# Altium footprint library PCB.PcbLib: 16 footprints
Each footprint in its own frame and in the unit in brackets; x right, y up, seen from the top. Pads: shape width x height; smd on the part's side, far side on the other; paste and mask are expansions set on the pad; w line width, h text height; cw(c..) or ccw(c..) is an arc to the next point about the centre after c.
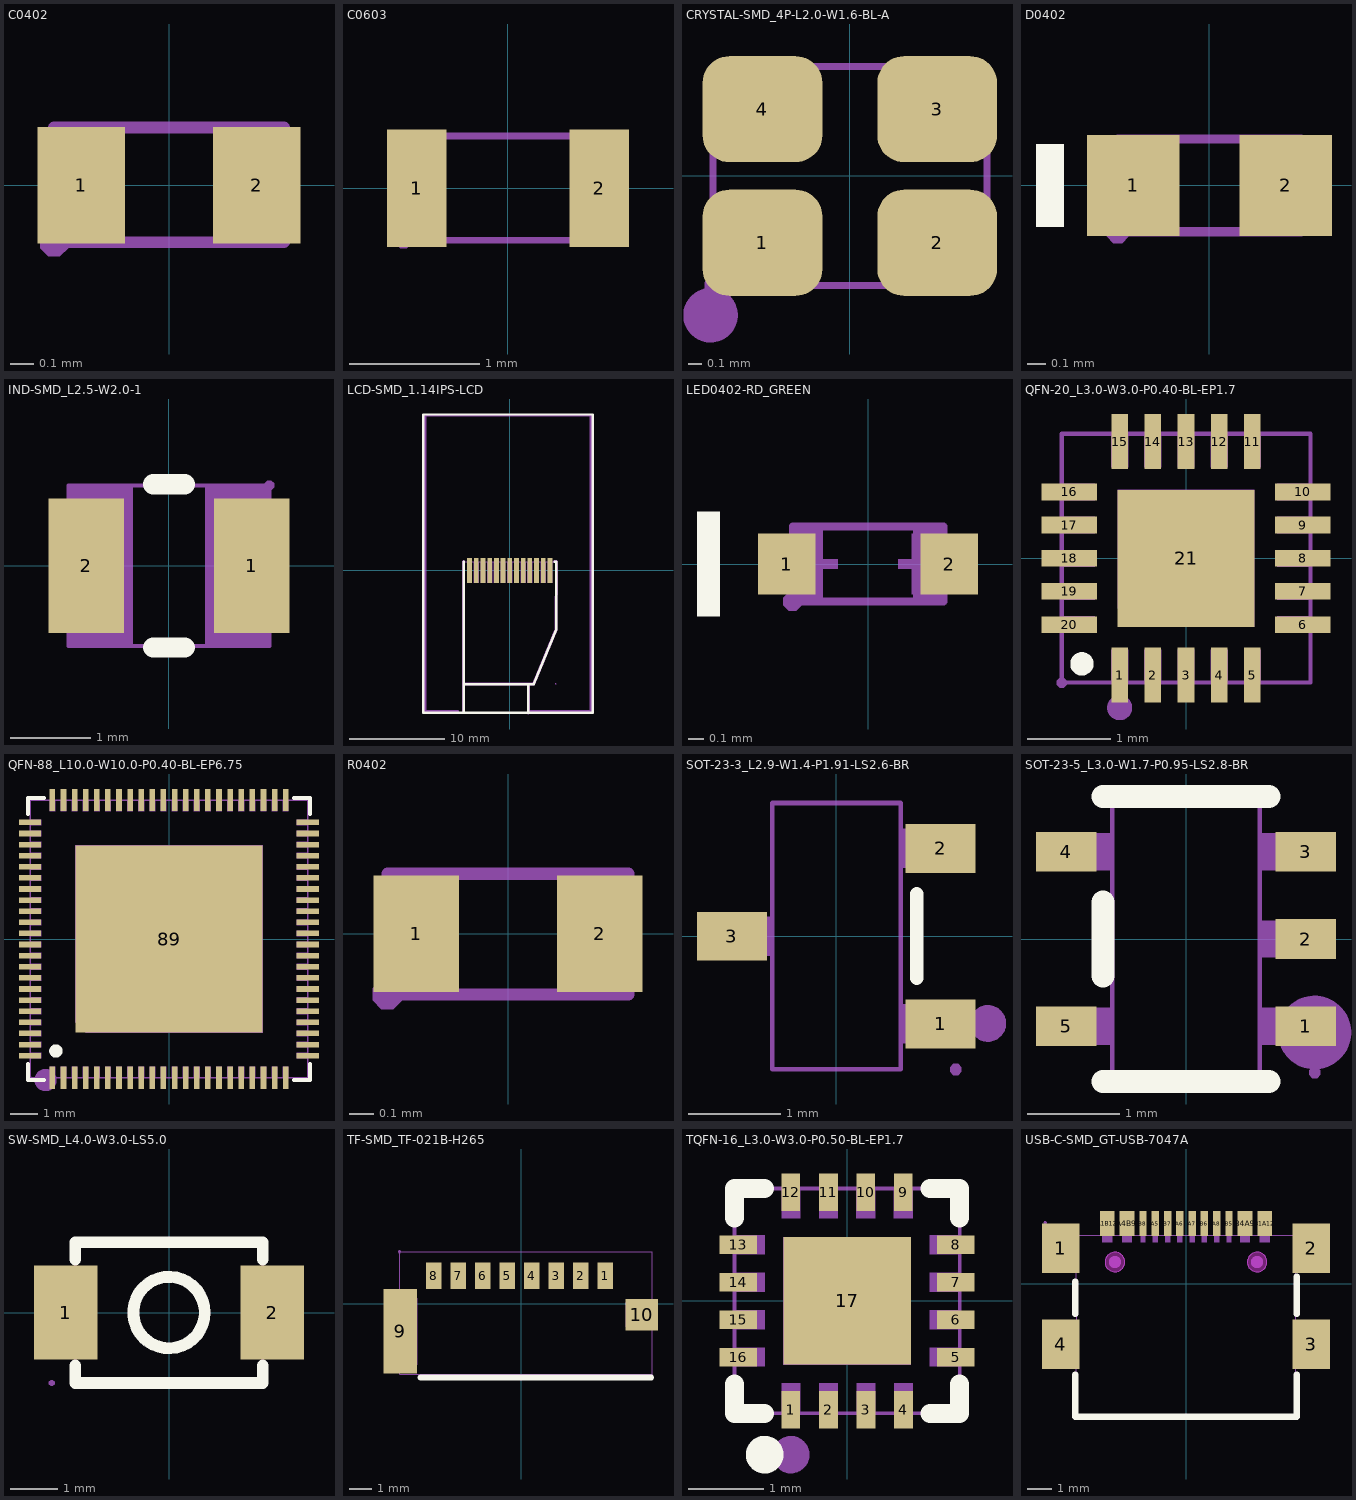
[diagram p0: the footprints below, top view; thin cyan lines are the x and y axes]

## C0402 [mil]
pads (2):
  rect 15x20 smd paste-3937 mask+2: 1(-15,0) 2(15,0)
Top Paste:
  region: -2.1,8.9 -2.1,-8.8 -4.8,-10.8 -23.7,-10.8 -25.7,-8.8 -25.7,8.9 -23.7,10.9 -4.8,10.9
  region: 25.7,8.9 25.7,-8.8 23.7,-10.8 4.8,-10.8 2.1,-8.8 2.1,8.9 4.8,10.9 23.7,10.9
Mechanical 7:
  lines w2: -19.7,-9.8 -19.7,9.9 19.7,9.9 19.7,-9.8 -19.7,-9.8
Mechanical 8:
  region: -17.3,-9.8 -17.3,-10.79 -18.71,-12.2 -20.69,-12.2 -22.1,-10.79 -22.1,-9.8 -22.1,-8.81 -20.69,-7.4 -18.71,-7.4 -17.3,-8.81 -17.3,-9.8
Mechanical 9:
  region: -19.7,-9.8 -19.7,9.9 -9.8,9.9 -9.8,-9.8
  region: 19.7,-9.8 19.7,9.9 9.8,9.9 9.8,-9.8

## C0603 [mil]
pads (2):
  rect 18x35.4 smd paste+0 mask+2: 1(-27.5,0) 2(27.6,0)
Mechanical 7:
  lines w2: -31.5,-15.7 31.5,-15.7 31.5,15.8 -31.5,15.8 -31.5,-15.7
Mechanical 8:
  region: -31.5,-18.1 -32.49,-18.1 -33.9,-16.69 -33.9,-14.71 -32.49,-13.3 -31.5,-13.3 -30.51,-13.3 -29.1,-14.71 -29.1,-16.69 -30.51,-18.1 -31.5,-18.1
Mechanical 9:
  region: 31.5,-15.7 31.5,15.8 19.7,15.8 19.7,-15.7
  region: -31.5,-15.7 -31.5,15.8 -19.6,15.8 -19.6,-15.7

## CRYSTAL-SMD_4P-L2.0-W1.6-BL-A [mil]
pads (4):
  rrect50% 34.4x30.5 smd: 1(-25.1,-19.2) 2(25.1,-19.2) 3(25.1,19.2) 4(-25.1,19.2)
Mechanical 6:
  circle w7.9: c-40,-40 r3.9
Mechanical 7:
  lines w2: -39.3,-31.5 39.4,-31.5 39.4,31.5 -39.3,31.5 -39.3,-31.5
Mechanical 8:
  region: -39.3,-33.9 -40.29,-33.9 -41.7,-32.49 -41.7,-30.51 -40.29,-29.1 -39.3,-29.1 -38.31,-29.1 -36.9,-30.51 -36.9,-32.49 -38.31,-33.9 -39.3,-33.9
Mechanical 9:
  region: -39.3,31.5 -12.8,31.5 -12.8,8.9 -39.3,8.9
  region: 12.8,31.5 39.4,31.5 39.4,8.9 12.8,8.9
  region: 12.8,-8.9 39.4,-8.9 39.4,-31.5 12.8,-31.5
  region: -39.3,-8.9 -12.8,-8.9 -12.8,-31.5 -39.3,-31.5

## D0402 [mil]
pads (2):
  rect 19.9x21.7 smd paste-3937 mask+2: 1(-16.4,0) 2(16.4,0)
Top Overlay:
  region: -31.3,-8.9 -31.3,8.8 -37.3,8.8 -37.3,-8.9
Top Paste:
  region: 5.8,9.2 5.8,-9.2 7.5,-10.8 24.8,-10.8 26.4,-9.2 26.4,9.2 24.8,10.8 7.5,10.8
  region: -5.8,9.2 -5.8,-9.2 -7.4,-10.8 -24.7,-10.8 -26.3,-9.2 -26.3,9.2 -24.7,10.8 -7.4,10.8
Mechanical 6:
  region: 13.7,-8 13.7,8 11.3,8 11.3,-8
  region: 17.3,-1.2 17.3,1.2 7.7,1.2 7.7,-1.2
  region: -17.2,-1.2 -17.2,1.2 -7.6,1.2 -7.6,-1.2
Mechanical 7:
  lines w2: -19.7,-10 19.7,-10 19.7,10 -19.7,10 -19.7,-10
Mechanical 8:
  region: -19.7,-12.4 -20.69,-12.4 -22.1,-10.99 -22.1,-9.01 -20.69,-7.6 -19.7,-7.6 -18.71,-7.6 -17.3,-9.01 -17.3,-10.99 -18.71,-12.4 -19.7,-12.4
Mechanical 9:
  region: 19.7,-10 19.7,10 10.3,10 10.3,-10
  region: -19.7,-10 -19.7,10 -10.2,10 -10.2,-10

## IND-SMD_L2.5-W2.0-1 [mil]
pads (2):
  rect 37x66 smd paste+0 mask+2: 1(40.5,0) 2(-40.5,0)
Top Overlay:
  lines w10: -7.7,-40 7.8,-40 ; -7.7,40 7.8,40
Mechanical 7:
  lines w2: -49.2,-39.3 -49.2,39.4 49.2,39.4 49.2,-39.3 -49.2,-39.3
Mechanical 8:
  region: 51.6,39.4 51.6,38.41 50.19,37 48.21,37 46.8,38.41 46.8,39.4 46.8,40.39 48.21,41.8 50.19,41.8 51.6,40.39 51.6,39.4
Mechanical 9:
  region: 17.7,39.4 49.2,39.4 49.2,-39.3 17.7,-39.3
  region: -49.2,39.4 -17.7,39.4 -17.7,-39.3 -49.2,-39.3

## LCD-SMD_1.14IPS-LCD [mil]
pads (13):
  rect 19.7x102.4 smd paste+0 mask+2: 1(165.3,0) 2(137.7,0) 3(110.2,0) 4(82.6,0) 5(55.1,0) 6(27.5,0) 7(0,0) 8(-27.6,0) 9(-55.2,0) 10(-82.7,0) 11(-110.3,0) 12(-137.8,0) 13(-165.4,0)
Top Overlay:
  lines w10: -189.8,-586.3 -189.8,-468.1 ; -189.8,35.5 -189.8,-468.4 65.9,-468.4 98.4,-468.4 190.9,-244.1 191.7,35.5 184.2,35.5 ; 76.7,-586.7 76.7,-468.5 ; -355.7,-586.6 -355.7,641.7 341.1,641.7 341.1,-586.6 -355.7,-586.6
Mechanical 6:
  drawing of 7 lines, arcs and shapes, not listed
Mechanical 7:
  lines w2: -189,-468.5 98.4,-468.5 188.9,-244.1 188.9,35.4 -189,35.4 -189,-468.5
Mechanical 8:
  region: 188.9,-464.9 187.91,-464.9 186.5,-466.31 186.5,-468.29 187.91,-469.7 188.9,-469.7 189.89,-469.7 191.3,-468.29 191.3,-466.31 189.89,-464.9 188.9,-464.9 188.9,-465
Mechanical 9:
  region: 155.5,-51.2 175.1,-51.2 175.1,35.4 155.5,35.4
  region: 127.9,-51.2 147.6,-51.2 147.6,35.4 127.9,35.4
  region: 100.3,-51.2 120,-51.2 120,35.4 100.3,35.4
  region: 72.8,-51.2 92.5,-51.2 92.5,35.4 72.8,35.4
  region: 45.2,-51.2 64.9,-51.2 64.9,35.4 45.2,35.4
  region: 17.7,-51.2 37.4,-51.2 37.4,35.4 17.7,35.4
  region: -9.9,-51.2 9.8,-51.2 9.8,35.4 -9.9,35.4
  region: -37.4,-51.2 -17.8,-51.2 -17.8,35.4 -37.4,35.4
  region: -65,-51.2 -45.3,-51.2 -45.3,35.4 -65,35.4
  region: -92.6,-51.2 -72.9,-51.2 -72.9,35.4 -92.6,35.4
  region: -120.1,-51.2 -100.4,-51.2 -100.4,35.4 -120.1,35.4
  region: -147.7,-51.2 -128,-51.2 -128,35.4 -147.7,35.4
  region: -175.2,-51.2 -155.6,-51.2 -155.6,35.4 -175.2,35.4

## LED0402-RD_GREEN [mil]
pads (2):
  rect 15x16 smd paste-3937 mask+2: 1(-21.2,0) 2(21.2,0)
Top Overlay:
  region: -38.7,-13.6 -38.7,13.6 -44.7,13.6 -44.7,-13.6
Top Paste:
  region: -7.8,-9.1 -7.8,9.1 -9.4,10.6 -32.1,10.6 -33.7,9.1 -33.7,-9.1 -32.1,-10.6 -9.4,-10.6
  region: 7.8,-9.1 7.8,9.1 9.4,10.6 32.1,10.6 33.7,9.1 33.7,-9.1 32.1,-10.6 9.4,-10.6
Mechanical 6:
  region: 13.8,-7.9 13.8,7.9 11.4,7.9 11.4,-7.9
  region: 17.3,-1.2 17.3,1.2 7.9,1.2 7.9,-1.2
  region: -17.3,-1.2 -17.3,1.2 -7.9,1.2 -7.9,-1.2
Mechanical 7:
  lines w2: -19.7,-9.8 19.7,-9.8 19.7,9.8 -19.7,9.8 -19.7,-9.8
Mechanical 8:
  region: -17.3,-9.8 -17.3,-10.79 -18.71,-12.2 -20.69,-12.2 -22.1,-10.79 -22.1,-9.8 -22.1,-8.81 -20.69,-7.4 -18.71,-7.4 -17.3,-8.81 -17.3,-9.8
Mechanical 9:
  region: 19.7,-9.8 19.7,9.8 11.8,9.8 11.8,-9.8
  region: -19.7,-9.8 -19.7,9.8 -11.8,9.8 -11.8,-9.8

## QFN-20_L3.0-W3.0-P0.40-BL-EP1.7 [mil]
pads (21):
  rect 7.9x26.2 smd paste-3937 mask+2: 1(-31.5,-55.4) 2(-15.7,-55.4) 3(0,-55.4) 4(15.8,-55.4) 5(31.5,-55.4) 11(31.5,55.4) 12(15.8,55.4) 13(0,55.4) 14(-15.7,55.4) 15(-31.5,55.4)
  rect 26.2x7.9 smd paste-3937 mask+2: 6(55.4,-31.5) 7(55.4,-15.7) 8(55.4,0) 9(55.4,15.8) 10(55.4,31.5) 16(-55.4,31.5) 17(-55.4,15.8) 18(-55.4,0) 19(-55.4,-15.7) 20(-55.4,-31.5)
  rect 65x65 smd paste-3937 mask+2: 21(0,0)
Top Overlay:
  circle w5.9: c-49.4,-50.1 r2.6
Top Paste:
  region: -68.5,-27.6 -42.3,-27.6 -42.3,-35.4 -68.5,-35.4
  region: -68.5,-11.8 -42.3,-11.8 -42.3,-19.7 -68.5,-19.7
  region: -68.5,3.9 -42.3,3.9 -42.3,-3.9 -68.5,-3.9
  region: -68.5,19.7 -42.3,19.7 -42.3,11.8 -68.5,11.8
  region: -68.5,35.4 -42.3,35.4 -42.3,27.6 -68.5,27.6
  region: -35.4,68.5 -27.6,68.5 -27.6,42.3 -35.4,42.3
  region: -19.7,68.5 -11.8,68.5 -11.8,42.3 -19.7,42.3
  region: -3.9,68.5 3.9,68.5 3.9,42.3 -3.9,42.3
  region: 11.8,68.5 19.7,68.5 19.7,42.3 11.8,42.3
  region: 27.6,68.5 35.4,68.5 35.4,42.3 27.6,42.3
  region: 42.3,35.4 68.5,35.4 68.5,27.6 42.3,27.6
  region: 42.3,19.7 68.5,19.7 68.5,11.8 42.3,11.8
  region: 42.3,3.9 68.5,3.9 68.5,-3.9 42.3,-3.9
  region: 42.3,-11.8 68.5,-11.8 68.5,-19.7 42.3,-19.7
  region: 42.3,-27.6 68.5,-27.6 68.5,-35.4 42.3,-35.4
  region: 27.6,-42.3 35.4,-42.3 35.4,-68.5 27.6,-68.5
  region: 11.8,-42.3 19.7,-42.3 19.7,-68.5 11.8,-68.5
  region: -3.9,-42.3 3.9,-42.3 3.9,-68.5 -3.9,-68.5
  region: -19.7,-42.3 -11.8,-42.3 -11.8,-68.5 -19.7,-68.5
  region: -35.4,-42.3 -27.6,-42.3 -27.6,-68.5 -35.4,-68.5
  region: -26,26 26,26 26,-26 -26,-26
Mechanical 6:
  circle w5.9: c-31.5,-70.9 r3
Mechanical 7:
  lines w2: -59,-59 59.1,-59 59.1,59.1 -59,59.1 -59,-59
Mechanical 8:
  region: -61.4,-59.1 -61.4,-58.11 -59.99,-56.7 -58.01,-56.7 -56.6,-58.11 -56.6,-59.1 -56.6,-60.09 -58.01,-61.5 -59.99,-61.5 -61.4,-60.09 -61.4,-59.1
Mechanical 9:
  region: -32.5,-23.6 -32.5,32.5 32.5,32.5 32.5,-32.5 -23.6,-32.3
  region: -43.3,-35.4 -43.3,-27.6 -59,-27.6 -59,-35.4
  region: -43.3,-19.7 -43.3,-11.8 -59,-11.8 -59,-19.7
  region: -43.3,-3.9 -43.3,3.9 -59,3.9 -59,-3.9
  region: -43.3,11.8 -43.3,19.7 -59,19.7 -59,11.8
  region: -43.3,27.6 -43.3,35.4 -59,35.4 -59,27.6
  region: -35.4,59.1 -35.4,43.3 -27.5,43.3 -27.5,59.1
  region: -19.7,59.1 -19.7,43.3 -11.8,43.3 -11.8,59.1
  region: -3.9,59.1 -3.9,43.3 3.9,43.3 3.9,59.1
  region: 11.8,59.1 11.8,43.3 19.7,43.3 19.7,59.1
  region: 27.6,59.1 27.6,43.3 35.4,43.3 35.4,59.1
  region: 43.3,27.6 43.3,35.4 59.1,35.4 59.1,27.6
  region: 43.3,11.8 43.3,19.7 59.1,19.7 59.1,11.8
  region: 43.3,-3.9 43.3,3.9 59.1,3.9 59.1,-3.9
  region: 43.3,-19.7 43.3,-11.8 59.1,-11.8 59.1,-19.7
  region: 43.3,-35.4 43.3,-27.6 59.1,-27.6 59.1,-35.4
  region: 27.6,-59 27.6,-43.3 35.4,-43.3 35.4,-59
  region: 11.8,-59 11.8,-43.3 19.7,-43.3 19.7,-59
  region: -3.9,-59 -3.9,-43.3 3.9,-43.3 3.9,-59
  region: -19.7,-59 -19.7,-43.3 -11.8,-43.3 -11.8,-59
  region: -35.4,-59 -35.4,-43.3 -27.5,-43.3 -27.5,-59

## QFN-88_L10.0-W10.0-P0.40-BL-EP6.75 [mil]
pads (89):
  rect 7.9x31.5 smd paste-3937 mask+2: 1(-165.4,-196.8) 2(-149.6,-196.8) 3(-133.9,-196.8) 4(-118.1,-196.8) 5(-102.4,-196.8) 6(-86.6,-196.8) 7(-70.9,-196.8) 8(-55.1,-196.8) 9(-39.4,-196.8) 10(-23.6,-196.8) 11(-7.9,-196.8) 12(7.9,-196.8) 13(23.6,-196.8) 14(39.4,-196.8) 15(55.1,-196.8) 16(70.9,-196.8) 17(86.6,-196.8) 18(102.4,-196.8) 19(118.1,-196.8) 20(133.9,-196.8) 21(149.6,-196.8) 22(165.3,-196.8) 45(165.3,196.9) 46(149.6,196.9) 47(133.9,196.9) 48(118.1,196.9) 49(102.4,196.9) 50(86.6,196.9) 51(70.9,196.9) 52(55.1,196.9) 53(39.4,196.9) 54(23.6,196.9) 55(7.9,196.9) 56(-7.9,196.9) 57(-23.6,196.9) 58(-39.4,196.9) 59(-55.1,196.9) 60(-70.9,196.9) 61(-86.6,196.9) 62(-102.4,196.9) 63(-118.1,196.9) 64(-133.9,196.9) 65(-149.6,196.9) 66(-165.4,196.9)
  rect 31.5x7.9 smd paste-3937 mask+2: 23(196.8,-165.3) 24(196.8,-149.6) 25(196.8,-133.8) 26(196.8,-118.1) 27(196.8,-102.3) 28(196.8,-86.6) 29(196.8,-70.8) 30(196.8,-55.1) 31(196.8,-39.3) 32(196.8,-23.6) 33(196.8,-7.8) 34(196.8,7.9) 35(196.8,23.6) 36(196.8,39.4) 37(196.8,55.1) 38(196.8,70.9) 39(196.8,86.6) 40(196.8,102.4) 41(196.8,118.1) 42(196.8,133.9) 43(196.8,149.6) 44(196.8,165.4) 67(-196.9,165.4) 68(-196.9,149.6) 69(-196.9,133.9) 70(-196.9,118.1) 71(-196.9,102.4) 72(-196.9,86.6) 73(-196.9,70.9) 74(-196.9,55.1) 75(-196.9,39.4) 76(-196.9,23.6) 77(-196.9,7.9) 78(-196.9,-7.8) 79(-196.9,-23.6) 80(-196.9,-39.3) 81(-196.9,-55.1) 82(-196.9,-70.8) 83(-196.9,-86.6) 84(-196.9,-102.3) 85(-196.9,-118.1) 86(-196.9,-133.8) 87(-196.9,-149.6) 88(-196.9,-165.3)
  rect 265.7x265.7 smd paste-3937 mask+2: 89(0,0)
Top Overlay:
  circle w9.4: c-160.4,-158.7 r4.7
  lines w6: -199.9,-177.2 -199.9,-199.8 -177.3,-199.8 ; -199.9,177.3 -199.9,199.9 -177.3,199.9 ; 177.3,-199.8 199.8,-199.8 199.8,-177.2 ; 177.3,199.9 199.8,199.9 199.8,177.3
Top Paste:
  drawing of 89 lines, arcs and shapes, not listed
Mechanical 6:
  circle w15.7: c-175,-200 r7.9
Mechanical 7:
  lines w2: -196.9,-196.8 196.8,-196.8 196.8,196.9 -196.9,196.9 -196.9,-196.8
Mechanical 8:
  region: -194.5,-196.8 -194.5,-197.79 -195.91,-199.2 -197.89,-199.2 -199.3,-197.79 -199.3,-196.8 -199.3,-195.81 -197.89,-194.4 -195.91,-194.4 -194.5,-195.81 -194.5,-196.8
Mechanical 9:
  drawing of 89 lines, arcs and shapes, not listed

## R0402 [mil]
pads (2):
  rect 14x19 smd paste-3937 mask+2: 1(-15,0) 2(15,0)
Top Paste:
  region: -0.3,-9.1 -0.3,9 -1.9,10.6 -21.6,10.6 -23.2,9 -23.2,-9.1 -21.6,-10.7 -1.9,-10.7
  region: 0.3,-9.1 0.3,9 1.9,10.6 21.6,10.6 23.2,9 23.2,-9.1 21.6,-10.7 1.9,-10.7
Mechanical 7:
  lines w2: -19.7,-9.9 19.7,-9.9 19.7,9.8 -19.7,9.8 -19.7,-9.9
Mechanical 8:
  region: -22.1,-9.9 -22.1,-8.91 -20.69,-7.5 -18.71,-7.5 -17.3,-8.91 -17.3,-9.9 -17.3,-10.89 -18.71,-12.3 -20.69,-12.3 -22.1,-10.89 -22.1,-9.9 -22,-9.9
Mechanical 9:
  region: -9.8,9.8 -9.8,-9.9 -19.6,-9.9 -19.6,9.8
  region: 9.9,-9.9 9.9,9.8 19.7,9.8 19.7,-9.9

## SOT-23-3_L2.9-W1.4-P1.91-LS2.6-BR [mil]
pads (3):
  rect 30x20.9 smd paste+0 mask+2: 1(44.7,-37.6) 2(44.7,37.6) 3(-44.7,0)
Top Overlay:
  lines w6: 34.5,-17.9 34.5,18
Mechanical 6:
  circle w7.9: c65,-37.4 r3.9
Mechanical 7:
  lines w2: -27.5,-57.1 27.6,-57.1 27.6,57.1 -27.5,57.1 -27.5,-57.1
Mechanical 8:
  region: 51.2,-59.5 50.21,-59.5 48.8,-58.09 48.8,-56.11 50.21,-54.7 51.2,-54.7 52.19,-54.7 53.6,-56.11 53.6,-58.09 52.19,-59.5 51.2,-59.5 51.2,-59.4
Mechanical 9:
  region: 37.4,-45.9 37.4,-29.2 51.2,-29.2 51.2,-45.9
  region: 37.4,29.3 37.4,46 51.2,46 51.2,29.3
  region: -51.2,-8.3 -51.2,8.4 -37.4,8.4 -37.4,-8.3
Mechanical 10:
  region: 27.2,-45.9 27.2,-29.2 37.8,-29.2 37.8,-45.9
  region: 27.2,29.3 27.2,46 37.8,46 37.8,29.3
  region: -37.8,-8.3 -37.8,8.4 -27.2,8.4 -27.2,-8.3

## SOT-23-5_L3.0-W1.7-P0.95-LS2.8-BR [mil]
pads (5):
  rect 26x17 smd paste+0 mask+2: 1(51.2,-37.4) 2(51.2,0) 3(51.2,37.4) 4(-51.2,37.4) 5(-51.2,-37.4)
Top Overlay:
  lines w10: -35.5,-61 35.4,-61 ; -35.5,-15.8 -35.5,15.7 ; -35.5,61 35.4,61
Mechanical 6:
  circle w15.7: c55,-40 r7.9
Mechanical 7:
  lines w2: -31.5,-57.1 -31.5,57.1 31.5,57.1 31.5,-57.1 -31.5,-57.1
Mechanical 8:
  region: 55.1,-54.7 56.09,-54.7 57.5,-56.11 57.5,-58.09 56.09,-59.5 55.1,-59.5 54.11,-59.5 52.7,-58.09 52.7,-56.11 54.11,-54.7 55.1,-54.7
Mechanical 9:
  region: -55.1,-45.3 -55.1,-29.5 -37.4,-29.5 -37.4,-45.3
  region: -55.1,29.5 -55.1,45.3 -37.4,45.3 -37.4,29.5
  region: 37.4,29.5 37.4,45.3 55.1,45.3 55.1,29.5
  region: 37.4,-7.9 37.4,7.9 55.1,7.9 55.1,-7.9
  region: 37.4,-45.3 37.4,-29.5 55.1,-29.5 55.1,-45.3
Mechanical 10:
  region: -37.8,-45.3 -37.8,-29.5 -31.1,-29.5 -31.1,-45.3
  region: -37.8,29.5 -37.8,45.3 -31.1,45.3 -31.1,29.5
  region: 31.1,29.5 31.1,45.3 37.8,45.3 37.8,29.5
  region: 31.1,-7.9 31.1,7.9 37.8,7.9 37.8,-7.9
  region: 31.1,-45.3 31.1,-29.5 37.8,-29.5 37.8,-45.3

## SW-SMD_L4.0-W3.0-LS5.0 [mil]
pads (2):
  rect 53.1x78.7 smd paste+0 mask+2: 1(-86.6,0) 2(86.6,0)
Top Overlay:
  circle w10: c0,0 r30
  lines w10: -78.7,-44.6 -78.7,-59.1 78.7,-59.1 78.7,-44.6 ; -78.7,44.5 -78.7,59 78.7,59 78.7,44.5
Mechanical 7:
  lines w2: -78.7,-59.1 -78.7,59 78.7,59 78.7,-59.1 -78.7,-59.1
Mechanical 8:
  region: -98.5,-61.5 -99.49,-61.5 -100.9,-60.09 -100.9,-58.11 -99.49,-56.7 -98.5,-56.7 -97.51,-56.7 -96.1,-58.11 -96.1,-60.09 -97.51,-61.5 -98.5,-61.5
Mechanical 9:
  region: 71,25.5 98.6,25.5 98.6,-25.6 71,-25.6
  region: -98.5,25.5 -71,25.5 -71,-25.6 -98.5,-25.6

## TF-SMD_TF-021B-H265 [mil]
pads (10):
  rect 27.6x47.2 smd: 1(148.6,49.2) 2(105.3,49.2) 3(62,49.2) 4(18.7,49.2) 5(-24.6,49.2) 6(-67.9,49.2) 7(-111.2,49.2) 8(-154.5,49.2)
  rect 59.1x149.6 smd: 9(-213.6,-49.2)
  rect 57.1x55.1 smd: 10(213.6,-19.7)
Top Overlay:
  lines w10: -178,-130.8 230.5,-130.8
Mechanical 6:
  circle w10: c150,60 r5
Mechanical 7:
  lines w2: -215,-125 231.9,-125 231.9,91.5 -215,91.5 -215,-125
Mechanical 8:
  region: -215,89.1 -215.99,89.1 -217.4,90.51 -217.4,92.49 -215.99,93.9 -215,93.9 -214.01,93.9 -212.6,92.49 -212.6,90.51 -214.01,89.1 -215,89.1 -215,89.2
Mechanical 9:
  region: -215.5,-108.3 -215.5,9.8 -184,9.8 -184,-108.3
  region: 185.1,-41.3 185.1,2 232.3,2 232.3,-41.3
  region: -148.6,66 -148.6,32.5 -160.4,32.5 -160.4,66
  region: -105.3,66 -105.3,32.5 -117.1,32.5 -117.1,66
  region: -62,66 -62,32.5 -73.8,32.5 -73.8,66
  region: -18.7,66 -18.7,32.5 -30.5,32.5 -30.5,66
  region: 24.6,66 24.6,32.5 12.8,32.5 12.8,66
  region: 67.9,66 67.9,32.5 56.1,32.5 56.1,66
  region: 111.2,66 111.2,32.5 99.4,32.5 99.4,66
  region: 154.5,66 154.5,32.5 142.7,32.5 142.7,66

## TQFN-16_L3.0-W3.0-P0.50-BL-EP1.7 [mil]
pads (17):
  rect 9.8x19.7 smd paste-3937 mask+2: 1(-29.5,-57.1) 2(-9.8,-57.1) 3(9.9,-57.1) 4(29.6,-57.1) 9(29.5,57.1) 10(9.8,57.1) 11(-9.8,57.1) 12(-29.5,57.1)
  rect 19.7x9.8 smd paste-3937 mask+2: 5(57.1,-29.5) 6(57.1,-9.8) 7(57.1,9.9) 8(57.1,29.5) 13(-57.1,29.5) 14(-57.1,9.9) 15(-57.1,-9.8) 16(-57.1,-29.5)
  rect 66.9x66.9 smd paste-3937 mask+2: 17(0,0)
Top Overlay:
  circle w10: c-43.3,-80.7 r4.9
  lines w10: -59.1,-43.5 -59.1,-59 -43.5,-59 ; -59.1,43.6 -59.1,59.1 -43.5,59.1 ; 43.5,59.1 59.1,59.1 59.1,43.6 ; 43.6,-59 59.1,-59 59.1,-43.5
Top Paste:
  region: 34.5,-42.3 24.7,-42.3 24.7,-71.8 34.5,-71.8
  region: 14.8,-42.3 5,-42.3 5,-71.8 14.8,-71.8
  region: -4.9,-42.3 -14.7,-42.3 -14.7,-71.8 -4.9,-71.8
  region: -24.5,-42.3 -34.4,-42.3 -34.4,-71.8 -24.5,-71.8
  region: 34.5,71.9 24.6,71.9 24.6,42.3 34.5,42.3
  region: 14.8,71.9 4.9,71.9 4.9,42.3 14.8,42.3
  region: -4.9,71.9 -14.7,71.9 -14.7,42.3 -4.9,42.3
  region: -24.6,71.9 -34.4,71.9 -34.4,42.3 -24.6,42.3
  region: 71.8,-34.4 71.8,-24.6 42.3,-24.6 42.3,-34.4
  region: 71.8,-14.8 71.8,-4.9 42.3,-4.9 42.3,-14.8
  region: 71.8,4.9 71.8,14.8 42.3,14.8 42.3,4.9
  region: 71.8,24.6 71.8,34.5 42.3,34.5 42.3,24.6
  region: -42.3,-34.4 -42.3,-24.6 -71.9,-24.6 -71.9,-34.4
  region: -42.3,-14.8 -42.3,-4.9 -71.9,-4.9 -71.9,-14.8
  region: -42.3,4.9 -42.3,14.8 -71.9,14.8 -71.9,4.9
  region: -42.3,24.6 -42.3,34.5 -71.9,34.5 -71.9,24.6
  region: -26.8,26.8 26.8,26.8 26.8,-26.8 -26.8,-26.8
Mechanical 6:
  circle w9.8: c-29.5,-80.7 r4.9
Mechanical 7:
  lines w2: -59.1,-59 -59.1,59.1 59.1,59.1 59.1,-59 -59.1,-59
Mechanical 8:
  region: -61.5,-59 -61.5,-58.01 -60.09,-56.6 -58.11,-56.6 -56.7,-58.01 -56.7,-59 -56.7,-59.99 -58.11,-61.4 -60.09,-61.4 -61.5,-59.99 -61.5,-59 -61.4,-59
Mechanical 9:
  region: -33.5,33.5 33.5,33.5 33.5,-33.5 -33.5,-33.5
  region: -24.5,-59 -34.4,-59 -34.4,-43.3 -24.5,-43.3
  region: -4.9,-59 -14.7,-59 -14.7,-43.3 -4.9,-43.3
  region: 14.8,-59 5,-59 5,-43.3 14.8,-43.3
  region: 34.5,-59 24.7,-59 24.7,-43.3 34.5,-43.3
  region: 43.3,-34.4 43.3,-24.6 59.1,-24.6 59.1,-34.4
  region: 43.3,-14.8 43.3,-4.9 59.1,-4.9 59.1,-14.8
  region: 43.3,4.9 43.3,14.8 59.1,14.8 59.1,4.9
  region: 43.3,24.6 43.3,34.5 59.1,34.5 59.1,24.6
  region: 24.6,59.1 34.4,59.1 34.4,43.3 24.6,43.3
  region: 4.9,59.1 14.8,59.1 14.8,43.3 4.9,43.3
  region: -14.7,59.1 -4.9,59.1 -4.9,43.3 -14.7,43.3
  region: -34.4,59.1 -24.6,59.1 -24.6,43.3 -34.4,43.3
  region: -43.3,34.5 -43.3,24.6 -59.1,24.6 -59.1,34.5
  region: -43.3,14.8 -43.3,4.9 -59.1,4.9 -59.1,14.8
  region: -43.3,-4.9 -43.3,-14.8 -59.1,-14.8 -59.1,-4.9
  region: -43.3,-24.6 -43.3,-34.4 -59.1,-34.4 -59.1,-24.6

## USB-C-SMD_GT-USB-7047A [mil]
pads (16):
  rect 60x78.7 smd paste+0 mask+2: 1(-200.8,57.1) 2(200.8,57.1) 3(200.8,-96.4) 4(-200.8,-96.4)
  rect 23.6x40 smd paste+0 mask+2: A1B12(-126,96.5) A4B9(-94.5,96.5) B1A12(126,96.5) B4A9(94.5,96.5)
  rect 11.8x40 smd paste+0 mask+2: A5(-49.2,96.5) A6(-9.8,96.5) A7(9.8,96.5) A8(49.2,96.5) B5(68.9,96.5) B6(29.5,96.5) B7(-29.5,96.5) B8(-68.9,96.5)
Top Overlay:
  lines w10: -177.2,-144.9 -177.2,-212.6 177.2,-212.6 177.2,-144.9 ; -177.2,-48 -177.2,4 ; 177.2,-48 177.2,11.8
Keep-Out Layer:
  circle w0.1: c-113.8,35.1 r15.7
  circle w0.1: c113.8,35.1 r15.7
  region: -98.1,35.1 -98.1,31.98 -100.49,26.21 -104.91,21.79 -110.68,19.4 -116.92,19.4 -122.69,21.79 -127.11,26.21 -129.5,31.98 -129.5,35.1 -129.5,38.22 -127.11,43.99 -122.69,48.41 -116.92,50.8 -110.68,50.8 -104.91,48.41 -100.49,43.99 -98.1,38.22 -98.1,35.1 -98,35.1
  region: -98.1,35.1 -98.1,31.98 -100.49,26.21 -104.91,21.79 -110.68,19.4 -116.92,19.4 -122.69,21.79 -127.11,26.21 -129.5,31.98 -129.5,35.1 -129.5,38.22 -127.11,43.99 -122.69,48.41 -116.92,50.8 -110.68,50.8 -104.91,48.41 -100.49,43.99 -98.1,38.22 -98.1,35.1 -98,35.1
  region: 129.5,35.1 129.5,31.98 127.11,26.21 122.69,21.79 116.92,19.4 110.68,19.4 104.91,21.79 100.49,26.21 98.1,31.98 98.1,35.1 98.1,38.22 100.49,43.99 104.91,48.41 110.68,50.8 116.92,50.8 122.69,48.41 127.11,43.99 129.5,38.22 129.5,35.1
  region: 129.5,35.1 129.5,31.98 127.11,26.21 122.69,21.79 116.92,19.4 110.68,19.4 104.91,21.79 100.49,26.21 98.1,31.98 98.1,35.1 98.1,38.22 100.49,43.99 104.91,48.41 110.68,50.8 116.92,50.8 122.69,48.41 127.11,43.99 129.5,38.22 129.5,35.1
Mechanical 1:
  circle w0.1: c-113.8,35.1 r15.7
  circle w0.1: c113.8,35.1 r15.7
Mechanical 6:
  circle w9.8: c-113.8,35.1 r4.9
  circle w9.8: c113.8,35.1 r4.9
Mechanical 7:
  lines w2: -176.4,78.4 -176,-89.3 -176,-211.4 176,-211.4 176,78.4 -176.4,78.4
Mechanical 8:
  region: -223.2,98.1 -223.2,97.11 -224.61,95.7 -226.59,95.7 -228,97.11 -228,98.1 -228,99.09 -226.59,100.5 -224.61,100.5 -223.2,99.09 -223.2,98.1
Mechanical 9:
  region: 174,-72.8 225.2,-72.8 225.2,-120.1 174,-120.1
  region: -225.6,-72.8 -174.4,-72.8 -174.4,-120.1 -225.6,-120.1
  region: -225.6,78.8 -174.4,78.8 -174.4,35.5 -225.6,35.5
  region: 174,78.8 225.2,78.8 225.2,35.5 174,35.5
  region: 118.1,98.1 133.9,98.1 133.9,66.6 118.1,66.6
  region: 86.6,98.1 102.4,98.1 102.4,66.6 86.6,66.6
  region: -102.4,98.1 -86.6,98.1 -86.6,66.6 -102.4,66.6
  region: -133.9,98.1 -118.1,98.1 -118.1,66.6 -133.9,66.6
  region: 65,98.1 72.8,98.1 72.8,66.6 65,66.6
  region: 45.3,98.1 53.1,98.1 53.1,66.6 45.3,66.6
  region: 25.6,98.1 33.5,98.1 33.5,66.6 25.6,66.6
  region: 5.9,98.1 13.8,98.1 13.8,66.6 5.9,66.6
  region: -13.8,98.1 -5.9,98.1 -5.9,66.6 -13.8,66.6
  region: -33.5,98.1 -25.6,98.1 -25.6,66.6 -33.5,66.6
  region: -53.1,98.1 -45.3,98.1 -45.3,66.6 -53.1,66.6
  region: -72.8,98.1 -65,98.1 -65,66.6 -72.8,66.6